# EAGLE library part ISO7421E_D_8 (library HOME_Automation123)
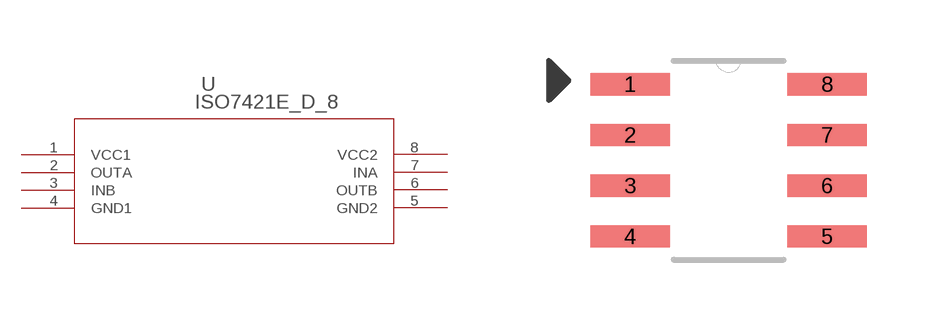
[diagram p14: symbol with the pads of D8; footprint D8]

Designator prefix U

## ISO7421E_D_8ISO7421D (DATASHEETURL: http://www.ti.com/lit/gpn/ISO7421E; DESCRIPTION: Low-Power Dual Channel Digital Isolators; FAMILY_NAME: ISOLATOR; GENERIC_PART_NUMBER: ISO7421E; INDUSTRY_STD_PKG_TYPE: SOIC; MANUFACTURER: Texas Instruments; MANUFACTURER_PART_NUMBER: iso7421e_d_8; PACKAGE_DESIGNATOR: D; PIN_COUNT: 8; VENDOR: Texas Instruments)  [D8]
1  VCC1  pwr
2  OUTA  out
3  INB  in
4  GND1  pwr
5  GND2  pwr
6  OUTB  out
7  INA  in
8  VCC2  pwr

## Footprint D8 (pad centres in mm)
smd 1.981 x 0.559: 1 -2.464,1.905; 2 -2.464,0.635; 3 -2.464,-0.635; 4 -2.464,-1.905; 5 2.464,-1.905; 6 2.464,-0.635; 7 2.464,0.635; 8 2.464,1.905